# Altium schematic symbol library GW_JELMS1.EM-H2H6-XX55-1-65-R3.SchLib: 1 symbol
Pins are listed as number, name and electrical type; pins without a type are passive.

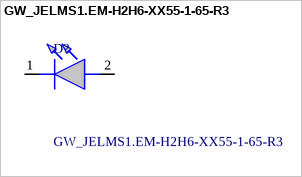
[diagram p0: symbol GW_JELMS1.EM-H2H6-XX55-1-65-R3]

## GW_JELMS1.EM-H2H6-XX55-1-65-R3
designator D?
Standard LEDs - SMD White DURIS E 4014; Manufacturer_Name: OSRAM; Manufacturer_Part_Number: GW JELMS1.EM-H2H6-XX55-1-65-R33; Geometry.Height: 0.65mm; Mouser Part Number: 720-GWJELMS1EMA9083; Mouser Price/Stock: https://www.mouser.co.uk/ProductDetail/OSRAM-Opto-Semiconductors/GW-JELMS1EM-H2H6-XX55-1-65-R33?qs=xZ%2FP%252Ba9zWqYPoY4ZBPOobw%3D%3D; Datasheet Link: *
footprint GWJELMS1EMH2H6XX55165R33
pins: 1 K, 2 A